# EAGLE library part PS2801C-4 (library GTEEL_gwu_mpnl_ucat_v10)
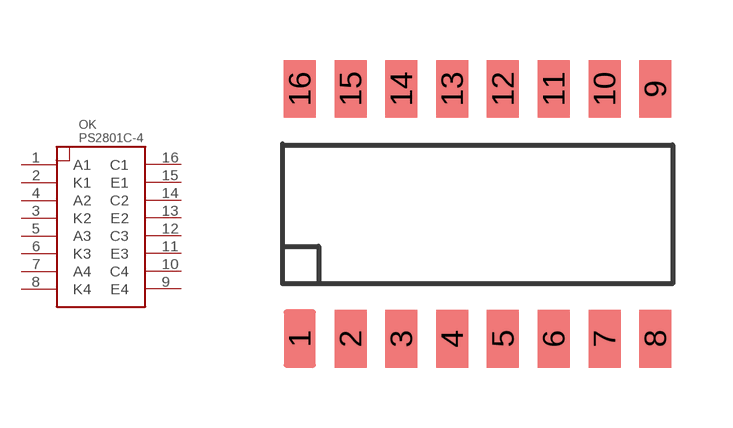
[diagram p13: symbol with the pads of SSOP(16PIN); footprint SSOP(16PIN)]

Designator prefix OK

## PS2801C-4  [SSOP(16PIN)]
1  A1
2  K1
3  K2
4  A2
5  A3
6  K3
7  A4
8  K4
9  E4
10  C4
11  E3
12  C3
13  E2
14  C2
15  E1
16  C1

## Footprint SSOP(16PIN) (pad centres in mm)
smd 0.8 x 1.45: 1 0,0; 2 1.27,0; 3 2.54,0; 4 3.81,0; 5 5.08,0; 6 6.35,0; 7 7.62,0; 8 8.89,0; 9 8.89,6.25; 10 7.62,6.25; 11 6.35,6.25; 12 5.08,6.25; 13 3.81,6.25; 14 2.54,6.25; 15 1.27,6.25; 16 0,6.25